# Altium footprint library Passives-SMD_D.PCBLIB: 9 footprints
Each footprint in its own frame and in the unit in brackets; x right, y up, seen from the top. Pads: shape width x height; smd on the part's side, far side on the other; paste and mask are expansions set on the pad; w line width, h text height; cw(c..) or ccw(c..) is an arc to the next point about the centre after c.
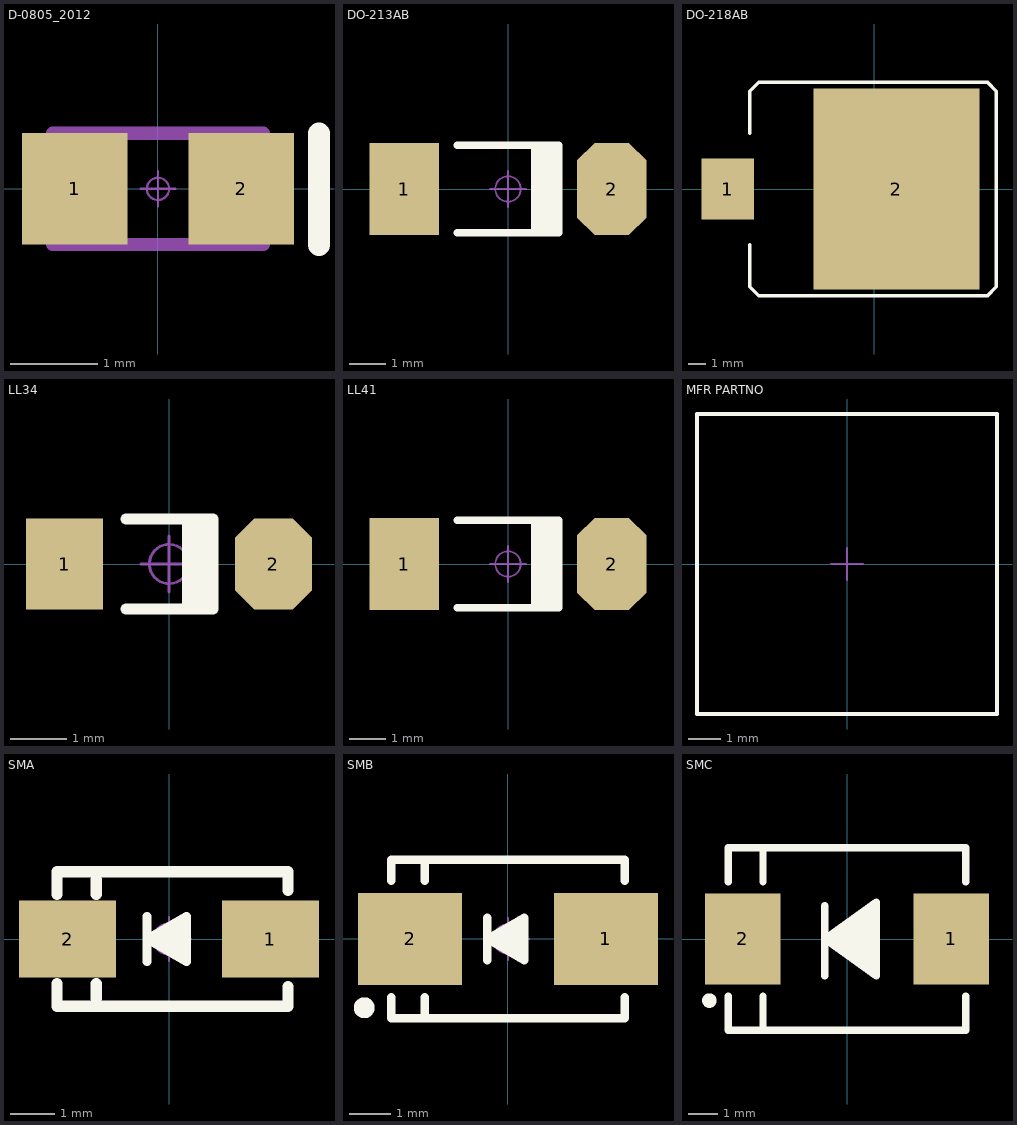
[diagram p0: the footprints below, top view; thin cyan lines are the x and y axes]

## D-0805_2012 [mm]
pads (2):
  rect 1.2x1.27 smd: 1(-0.95,0) 2(0.95,0)
Top Overlay:
  lines w0.254: 1.837,-0.638 1.837,0.632
Top 元件外形:
  lines w0.152: -1.2,-0.635 1.2,-0.635 1.2,0.635 -1.2,0.635 -1.2,-0.635
Top 中心点:
  circle w0.025: c0,0 r0.127
  lines w0.025: -0.2,0 0.2,0 ; 0,-0.2 0,0.2
3D body "User Library-R0805-1.stp": height 0.56, standoff 0, extent -1.2,-0.635 1.2,0.635

## DO-213AB [mm] "2.5*5.6mm(直径，脚距）"
height 2.54
pads (2):
  rect 1.9x2.54 smd: 1(-2.85,0)
  oct 1.9x2.54 smd: 2(2.85,0)
Top Overlay:
  rectangle: 0.635,-1.2 0.85,1.2
  rectangle: 0.762,-1.2 1.4,1.2
  lines w0.2: -1.4,-1.2 1.4,-1.2 1.4,1.2 -1.4,1.2
Top 中心点:
  circle w0.05: c0,0 r0.35
  lines w0.05: -0.5,0 0.5,0 ; 0,-0.5 0,0.5
3D body "DO-213AB.STEP": height 2.5, standoff 0, extent -2.53,-1.251 2.53,1.251

## DO-218AB [mm] "长：13.7mm，宽：10.5mm，厚：5mm"
height 2.54
pads (2):
  rect 3x3.5 smd: 1(-8.382,0)
  rect 9.5x11.5 smd: 2(1.27,0)
Top Overlay:
  lines w0.2: -7.112,-3.175 -7.112,-5.588 -6.604,-6.096 6.477,-6.096 6.985,-5.588 6.985,5.588 6.477,6.096 -6.604,6.096 -7.112,5.588 -7.112,3.175
Top 中心点:
  circle w0.05: c0,0 r0.35
  lines w0.05: -0.5,0 0.5,0 ; 0,-0.5 0,0.5
3D body "DO-218AB.STEP": height 5.02, standoff 0.02, extent -9.35,-5.25 6.85,5.25

## LL34 [mm] "1.5*3.4mm(直径，脚距）"
pads (2):
  rect 1.37x1.62 smd: 1(-1.855,0)
  oct 1.37x1.62 smd: 2(1.855,0)
Top Overlay:
  rectangle: 0.227,-0.8 0.777,0.8
  lines w0.2: -0.762,-0.8 0.777,-0.8 0.777,0.8 -0.762,0.8
Top 中心点:
  circle w0.05: c0,0 r0.35
  lines w0.05: -0.5,0 0.5,0 ; 0,-0.5 0,0.5
3D body "MINI-MELF.STEP": height 1.5, standoff 0, extent -1.701,-0.75 1.701,0.75

## LL41 [mm] "2.4*5.3mm(直径，脚距）"
height 2.54
pads (2):
  rect 1.9x2.54 smd: 1(-2.85,0)
  oct 1.9x2.54 smd: 2(2.85,0)
Top Overlay:
  rectangle: 0.762,-1.2 1.4,1.2
  rectangle: 0.635,-1.2 0.85,1.2
  lines w0.2: -1.4,-1.2 1.4,-1.2 1.4,1.2 -1.4,1.2
Top 中心点:
  circle w0.05: c0,0 r0.35
  lines w0.05: -0.5,0 0.5,0 ; 0,-0.5 0,0.5
3D body "MELF.STEP": height 2.4, standoff 0, extent -2.651,-1.2 2.651,1.2

## MFR PARTNO [mm] "记得设置高度"
Top Overlay:
  lines w0.127: -4.7,-4.7 -4.7,4.7 4.7,4.7 4.7,-4.7 -4.7,-4.7
Top 元件外形:
  lines w0.127: -4.7,-4.7 4.7,-4.7 4.7,4.7 -4.7,4.7 -4.7,-4.7
Top 中心点:
  lines w0.051: -0.5,0 0.5,0 ; 0,-0.5 0,0.5

## SMA [mm] "4.5x2.6*2.2mm（长宽高，不包括引脚）联系卖家 免费查找封装"
height 2.54
pads (2):
  rect 2.2x1.75 smd: 1(2.3,0) 2(-2.3,0)
Top Overlay:
  lines w0.203: -0.494,-0.508 -0.494,0.508 ; -0.494,0 0.395,0.508 0.395,-0.508 -0.494,0
  lines w0.254: -2.54,-1.016 -2.54,-1.524 2.7,-1.524 2.7,-1.08 ; -2.54,1.016 -2.54,1.524 2.7,1.524 2.7,1.105 ; -1.651,-1.35 -1.651,-1.016 ; -1.651,1.016 -1.651,1.35 ; -0.023,0 0.254,-0.051 0.254,0.305 -0.305,0 0.33,-0.305
Top 中心点:
  circle w0.05: c0,0 r0.35
  lines w0.05: -0.5,0 0.5,0 ; 0,-0.5 0,0.5
3D body "SMA.stp": height 2.15, standoff 0.05, extent -2.552,-1.3 2.552,1.3

## SMB [mm] "4.7*3.9*2.2mm(长宽高，不包括引脚）联系卖家 免费查找封装"
height 2.4
pads (2):
  rect 2.5x2.2 smd: 1(2.35,0) 2(-2.35,0)
Top Overlay:
  circle w0.25: c-3.45,-1.65 r0.125
  lines w0.2: -2.8,-1.4 -2.8,-1.9 2.8,-1.9 2.8,-1.4 ; -2.8,1.4 -2.8,1.9 2.8,1.9 2.8,1.4 ; -2,-1.9 -2,-1.4 ; -2,1.4 -2,1.9
  lines w0.203: -0.5,-0.508 -0.5,0.508 ; -0.5,0 0.389,-0.508 0.389,0.508 -0.5,0
  lines w0.254: 0.254,0 -0.279,0 ; -0.279,0 0.229,-0.279 0.229,0.305 -0.279,0
Top 中心点:
  circle w0.05: c0,0 r0.35
  lines w0.05: -0.5,0 0.5,0 ; 0,-0.5 0,0.5
3D body "SMB.stp": height 2.35, standoff 0.05, extent -2.65,-1.8 2.65,1.8

## SMC [mm] "7.1x5.9*2.3mm（长宽高，不包括引脚）"
height 2.41
pads (2):
  rect 2.6x3.15 smd: 1(3.6,0) 2(-3.6,0)
Top Overlay:
  circle w0.25: c-4.75,-2.125 r0.125
  lines w0.254: -4.1,-1.975 -4.1,-3.15 4.1,-3.15 4.1,-1.975 ; -4.1,1.975 -4.1,3.15 4.1,3.15 4.1,1.975 ; -2.9,-3.15 -2.9,-1.975 ; -2.9,1.975 -2.9,3.15 ; -0.762,-1.27 -0.762,1.143 ; 0.737,0.127 0.229,0.051 0.635,-0.152 0.584,0.33 0,0.051 0.762,-0.483 0.711,0.66 -0.229,0 0.914,-0.762 0.889,0.965 -0.5,0 0.889,-0.991 ; -0.762,0 1.016,-1.27 1.016,1.27 -0.762,0
Top 中心点:
  circle w0.05: c0,0 r0.35
  lines w0.05: -0.5,0 0.5,0 ; 0,-0.5 0,0.5
3D body "SMC.stp": height 2.4, standoff 0, extent -3.951,-2.9 3.952,2.9